# EAGLE library part HEADER-SOC (library vieng)
SOC programming header
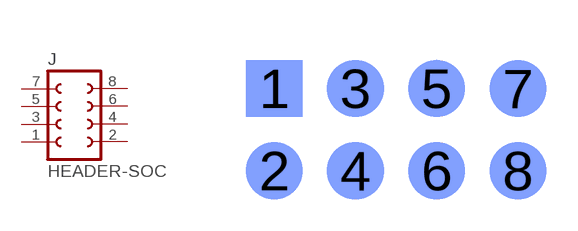
[diagram p0: symbol with the pads of 908QY_PRG; footprint 908QY_PRG]

Designator prefix J

## HEADER-SOCSMT  [908QY_PRG]
1  1  pas
2  2  pas
3  3  pas
4  4  pas
5  5  pas
6  6  pas
7  7  pas
8  8  pas

## Footprint 908QY_PRG (pad centres in mm)
smd 1.422 x 1.422 bottom: 1 -3.048,1.041; 2 -3.048,-1.016; 3 -1.016,1.041; 4 -1.016,-1.016; 5 1.016,1.041; 6 1.016,-1.016; 7 3.048,1.041; 8 3.048,-1.016